# EAGLE library part TEXAS_INSTRUMENTS-HDMI_TRANSCEIVER-DS90C3201_PDT_128 (library Module_ICs)
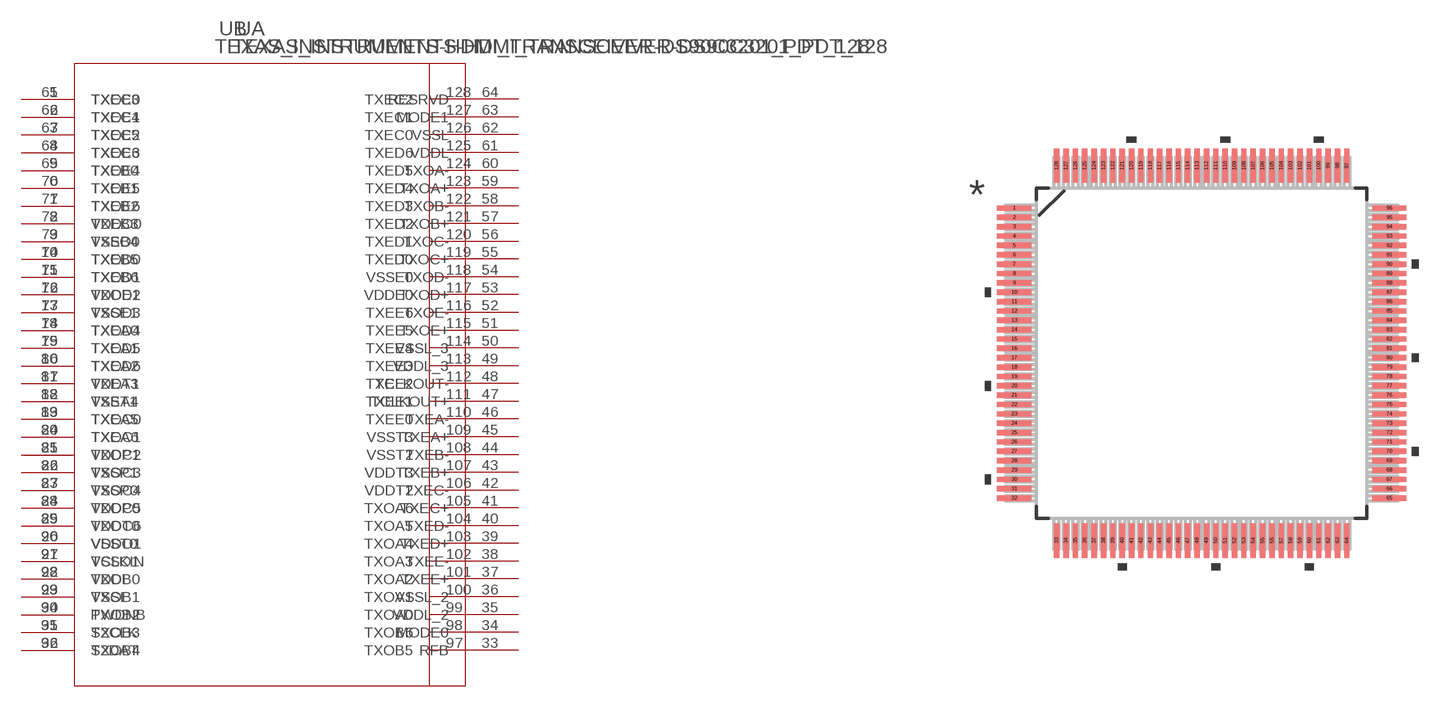
[diagram p30: symbol with the pads of TEXAS_INSTRUMENTS-HDMI_TRANSCEIVER-DS90C3201_PDT_128; footprint TEXAS_INSTRUMENTS-HDMI_TRANSCEIVER-DS90C3201_PDT_128]

Designator prefix -; gates A=DS90C3201VS_A B=DS90C3201VS_B

## TEXAS_INSTRUMENTS-HDMI_TRANSCEIVER-DS90C3201_PDT_128 (MANUFACTURER_PART_NUMBER: ds90c3201vsnopb; VENDOR: National)  [TEXAS_INSTRUMENTS-HDMI_TRANSCEIVER-DS90C3201_PDT_128]
1  A:TXEC3  in
2  A:TXEC4  in
3  A:TXEC5  in
4  A:TXEC6  in
5  A:TXEB0  in
6  A:TXEB1  in
7  A:TXEB2  in
8  A:TXEB3  in
9  A:TXEB4  in
10  A:TXEB5  in
11  A:TXEB6  in
12  A:VDDE1  pwr
13  A:VSSE1  pwr
14  A:TXEA0  in
15  A:TXEA1  in
16  A:TXEA2  in
17  A:TXEA3  in
18  A:TXEA4  in
19  A:TXEA5  in
20  A:TXEA6  in
21  A:VDDP1  pwr
22  A:VSSP1  pwr
23  A:VSSP0  pwr
24  A:VDDP0  pwr
25  A:VDDT0  pwr
26  A:VSST0  pwr
27  A:TCLKIN  in
28  A:VDDI  pwr
29  A:VSSI  pwr
30  A:PWDNB  in
31  A:S2CLK  in
32  A:S2DAT
33  A:RFB  in
34  A:MODE0  in
35  A:VDDL_2  pwr
36  A:VSSL_2  pwr
37  A:TXEE+  out
38  A:TXEE-  out
39  A:TXED+  out
40  A:TXED-  out
41  A:TXEC+  out
42  A:TXEC-  out
43  A:TXEB+  out
44  A:TXEB-  out
45  A:TXEA+  out
46  A:TXEA-  out
47  A:TCLKOUT+  out
48  A:TCLKOUT-  out
49  A:VDDL_3  pwr
50  A:VSSL_3  pwr
51  A:TXOE+  out
52  A:TXOE-  out
53  A:TXOD+  out
54  A:TXOD-  out
55  A:TXOC+  out
56  A:TXOC-  out
57  A:TXOB+  out
58  A:TXOB-  out
59  A:TXOA+  out
60  A:TXOA-  out
61  A:VDDL  pwr
62  A:VSSL  pwr
63  A:MODE1  in
64  A:RESRVD  in
65  B:TXOE0  in
66  B:TXOE1  in
67  B:TXOE2  in
68  B:TXOE3  in
69  B:TXOE4  in
70  B:TXOE5  in
71  B:TXOE6  in
72  B:VDDO0  pwr
73  B:VSSO0  pwr
74  B:TXOD0  in
75  B:TXOD1  in
76  B:TXOD2  in
77  B:TXOD3  in
78  B:TXOD4  in
79  B:TXOD5  in
80  B:TXOD6  in
81  B:VDDT1  pwr
82  B:VSST1  pwr
83  B:TXOC0  in
84  B:TXOC1  in
85  B:TXOC2  in
86  B:TXOC3  in
87  B:TXOC4  in
88  B:TXOC5  in
89  B:TXOC6  in
90  B:VDDO1  pwr
91  B:VSSO1  pwr
92  B:TXOB0  in
93  B:TXOB1  in
94  B:TXOB2  in
95  B:TXOB3  in
96  B:TXOB4  in
97  B:TXOB5  in
98  B:TXOB6  in
99  B:TXOA0  in
100  B:TXOA1  in
101  B:TXOA2  in
102  B:TXOA3  in
103  B:TXOA4  in
104  B:TXOA5  in
105  B:TXOA6  in
106  B:VDDT2  pwr
107  B:VDDT3  pwr
108  B:VSST2  pwr
109  B:VSST3  pwr
110  B:TXEE0  in
111  B:TXEE1  in
112  B:TXEE2  in
113  B:TXEE3  in
114  B:TXEE4  in
115  B:TXEE5  in
116  B:TXEE6  in
117  B:VDDE0  pwr
118  B:VSSE0  pwr
119  B:TXED0  in
120  B:TXED1  in
121  B:TXED2  in
122  B:TXED3  in
123  B:TXED4  in
124  B:TXED5  in
125  B:TXED6  in
126  B:TXEC0  in
127  B:TXEC1  in
128  B:TXEC2  in

## Footprint TEXAS_INSTRUMENTS-HDMI_TRANSCEIVER-DS90C3201_PDT_128 (pad centres in mm)
smd 1.473 x 0.229: 1 -8.014,6.2; 2 -8.014,5.8; 3 -8.014,5.4; 4 -8.014,5; 5 -8.014,4.6; 6 -8.014,4.2; 7 -8.014,3.8; 8 -8.014,3.4; 9 -8.014,3; 10 -8.014,2.6; 11 -8.014,2.2; 12 -8.014,1.8; 13 -8.014,1.4; 14 -8.014,1; 15 -8.014,0.6; 16 -8.014,0.2; 17 -8.014,-0.2; 18 -8.014,-0.6; 19 -8.014,-1; 20 -8.014,-1.4; 21 -8.014,-1.8; 22 -8.014,-2.2; 23 -8.014,-2.6; 24 -8.014,-3; 25 -8.014,-3.4; 26 -8.014,-3.8; 27 -8.014,-4.2; 28 -8.014,-4.6; 29 -8.014,-5; 30 -8.014,-5.4; 31 -8.014,-5.8; 32 -8.014,-6.2; 65 8.014,-6.2; 66 8.014,-5.8; 67 8.014,-5.4; 68 8.014,-5; 69 8.014,-4.6; 70 8.014,-4.2; 71 8.014,-3.8; 72 8.014,-3.4; 73 8.014,-3; 74 8.014,-2.6; 75 8.014,-2.2; 76 8.014,-1.8; 77 8.014,-1.4; 78 8.014,-1; 79 8.014,-0.6; 80 8.014,-0.2; 81 8.014,0.2; 82 8.014,0.6; 83 8.014,1; 84 8.014,1.4; 85 8.014,1.8; 86 8.014,2.2; 87 8.014,2.6; 88 8.014,3; 89 8.014,3.4; 90 8.014,3.8; 91 8.014,4.2; 92 8.014,4.6; 93 8.014,5; 94 8.014,5.4; 95 8.014,5.8; 96 8.014,6.2
smd 0.229 x 1.473: 33 -6.2,-8.014; 34 -5.8,-8.014; 35 -5.4,-8.014; 36 -5,-8.014; 37 -4.6,-8.014; 38 -4.2,-8.014; 39 -3.8,-8.014; 40 -3.4,-8.014; 41 -3,-8.014; 42 -2.6,-8.014; 43 -2.2,-8.014; 44 -1.8,-8.014; 45 -1.4,-8.014; 46 -1,-8.014; 47 -0.6,-8.014; 48 -0.2,-8.014; 49 0.2,-8.014; 50 0.6,-8.014; 51 1,-8.014; 52 1.4,-8.014; 53 1.8,-8.014; 54 2.2,-8.014; 55 2.6,-8.014; 56 3,-8.014; 57 3.4,-8.014; 58 3.8,-8.014; 59 4.2,-8.014; 60 4.6,-8.014; 61 5,-8.014; 62 5.4,-8.014; 63 5.8,-8.014; 64 6.2,-8.014; 97 6.2,8.014; 98 5.8,8.014; 99 5.4,8.014; 100 5,8.014; 101 4.6,8.014; 102 4.2,8.014; 103 3.8,8.014; 104 3.4,8.014; 105 3,8.014; 106 2.6,8.014; 107 2.2,8.014; 108 1.8,8.014; 109 1.4,8.014; 110 1,8.014; 111 0.6,8.014; 112 0.2,8.014; 113 -0.2,8.014; 114 -0.6,8.014; 115 -1,8.014; 116 -1.4,8.014; 117 -1.8,8.014; 118 -2.2,8.014; 119 -2.6,8.014; 120 -3,8.014; 121 -3.4,8.014; 122 -3.8,8.014; 123 -4.2,8.014; 124 -4.6,8.014; 125 -5,8.014; 126 -5.4,8.014; 127 -5.8,8.014; 128 -6.2,8.014